# EAGLE library part SI3217X (library dragino)
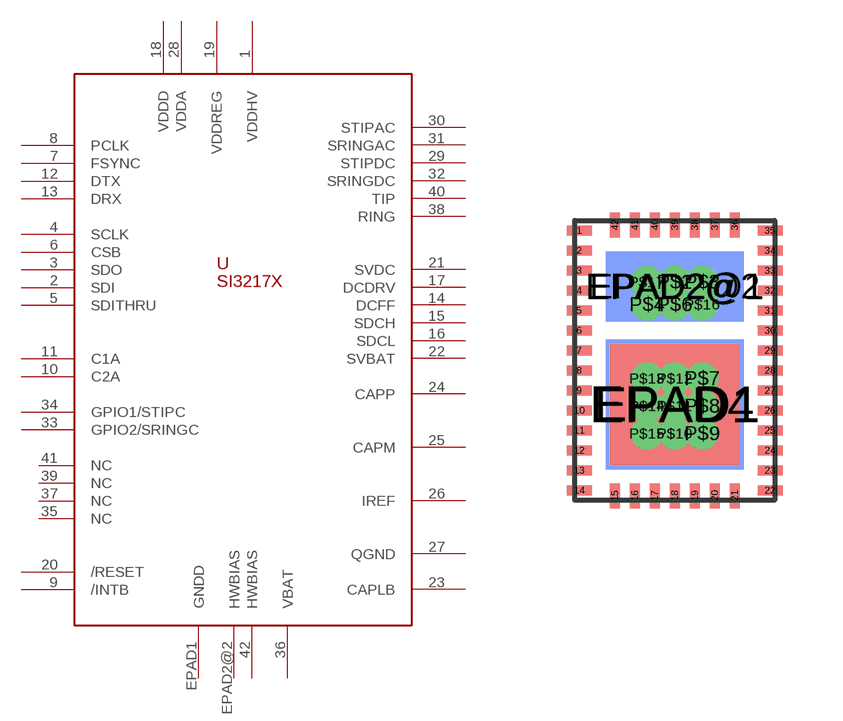
[diagram p20: symbol with the pads of SI3217X-QFN42; footprint SI3217X-QFN42]

Designator prefix -

## SI3217X  [SI3217X-QFN42]
1  VDDHV
2  SDI
3  SDO
4  SCLK
5  SDITHRU
6  CSB
7  FSYNC
8  PCLK
9  /INTB
10  C2A
11  C1A
12  DTX
13  DRX
14  DCFF
15  SDCH
16  SDCL
17  DCDRV
18  VDDD
19  VDDREG
20  /RESET
21  SVDC
22  SVBAT
23  CAPLB
24  CAPP
25  CAPM
26  IREF
27  QGND
28  VDDA
29  STIPDC
30  STIPAC
31  SRINGAC
32  SRINGDC
33  GPIO2/SRINGC
34  GPIO1/STIPC
35  NC
36  VBAT
37  NC
38  RING
39  NC
40  TIP
41  NC
42  HWBIAS
EPAD1  GNDD
EPAD2@2  HWBIAS

## Footprint SI3217X-QFN42 (pad centres in mm)
smd 0.625 x 0.25: 1 -2.388,3.25; 2 -2.388,2.75; 3 -2.388,2.25; 4 -2.388,1.75; 5 -2.388,1.25; 6 -2.388,0.75; 7 -2.388,0.25; 8 -2.388,-0.25; 9 -2.388,-0.75; 10 -2.388,-1.25; 11 -2.388,-1.75; 12 -2.388,-2.25; 13 -2.388,-2.75; 14 -2.388,-3.25; 22 2.388,-3.25; 23 2.388,-2.75; 24 2.388,-2.25; 25 2.388,-1.75; 26 2.388,-1.25; 27 2.388,-0.75; 28 2.388,-0.25; 29 2.388,0.25; 30 2.388,0.75; 31 2.388,1.25; 32 2.388,1.75; 33 2.388,2.25; 34 2.388,2.75; 35 2.388,3.25
smd 0.25 x 0.625: 15 -1.5,-3.388; 16 -1,-3.388; 17 -0.5,-3.388; 18 0,-3.388; 19 0.5,-3.388; 20 1,-3.388; 21 1.5,-3.388; 36 1.5,3.388; 37 1,3.388; 38 0.5,3.388; 39 0,3.388; 40 -0.5,3.388; 41 -1,3.388; 42 -1.5,3.388
smd 3.45 x 3.25 bottom: EPAD1 0,-1.1
smd 3.45 x 1.75 bottom: EPAD2@1 0,1.85
smd 3.25 x 1.55: EPAD2@2 0,1.85
smd 3.25 x 3.05: EPAD4 0,-1.1
drill 0.3 pad 0.45: P$2 0,1.959; P$3 0.689,1.959; P$4 -0.689,1.397; P$6 0,1.397; P$7 0.689,-0.454; P$8 0.689,-1.143; P$9 0.689,-1.832; P$10 0,-1.832; P$11 0,-1.143; P$12 0,-0.454; P$13 -0.689,-0.454; P$14 -0.689,-1.143; P$15 -0.689,-1.832; P$16 0.689,1.397; P$17 -0.7,1.959